# EAGLE library part JST_8PIN (library HarpyFC_Library)
JST 8-Pin Right-Angle Connector
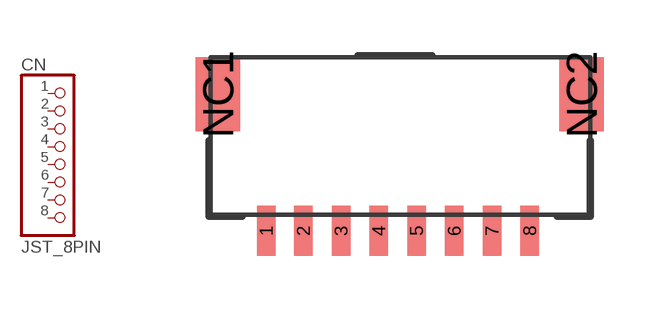
[diagram p7: symbol with the pads of JSTSH8; footprint JSTSH8]

Designator prefix CN

## JST_8PINJSTSH8  [JSTSH8]
1  1  pas
2  2  pas
3  3  pas
4  4  pas
5  5  pas
6  6  pas
7  7  pas
8  8  pas

## Footprint JSTSH8 (pad centres in mm)
smd 0.5 x 1.35: 1 1.532,-0.391; 2 2.532,-0.391; 3 3.548,-0.391; 4 4.564,-0.391; 5 5.58,-0.391; 6 6.596,-0.391; 7 7.612,-0.391; 8 8.628,-0.391
smd 1.2 x 2: NC1 0.232,3.284; NC2 10.022,3.284